# EAGLE library part INA226 (library JL)
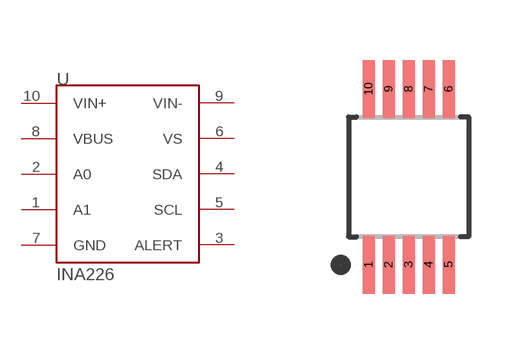
[diagram p6: symbol with the pads of VSSOP-10; footprint VSSOP-10]

Designator prefix -

## INA226  [VSSOP-10]
1  A1
2  A0
3  ALERT
4  SDA
5  SCL
6  VS  pwr
7  GND  pwr
8  VBUS  pwr
9  VIN-
10  VIN+

## Footprint VSSOP-10 (pad centres in mm)
smd 0.3 x 1.45: 1 -1,-2.2; 2 -0.5,-2.2; 3 0,-2.2; 4 0.5,-2.2; 5 1,-2.2; 6 1,2.2; 7 0.5,2.2; 8 0,2.2; 9 -0.5,2.2; 10 -1,2.2